# Altium footprint library PUMAlib.PcbLib: 45 footprints (part 3 of 3)
Each footprint in its own frame and in the unit in brackets; x right, y up, seen from the top. Pads: shape width x height; smd on the part's side, far side on the other; paste and mask are expansions set on the pad; w line width, h text height; cw(c..) or ccw(c..) is an arc to the next point about the centre after c.
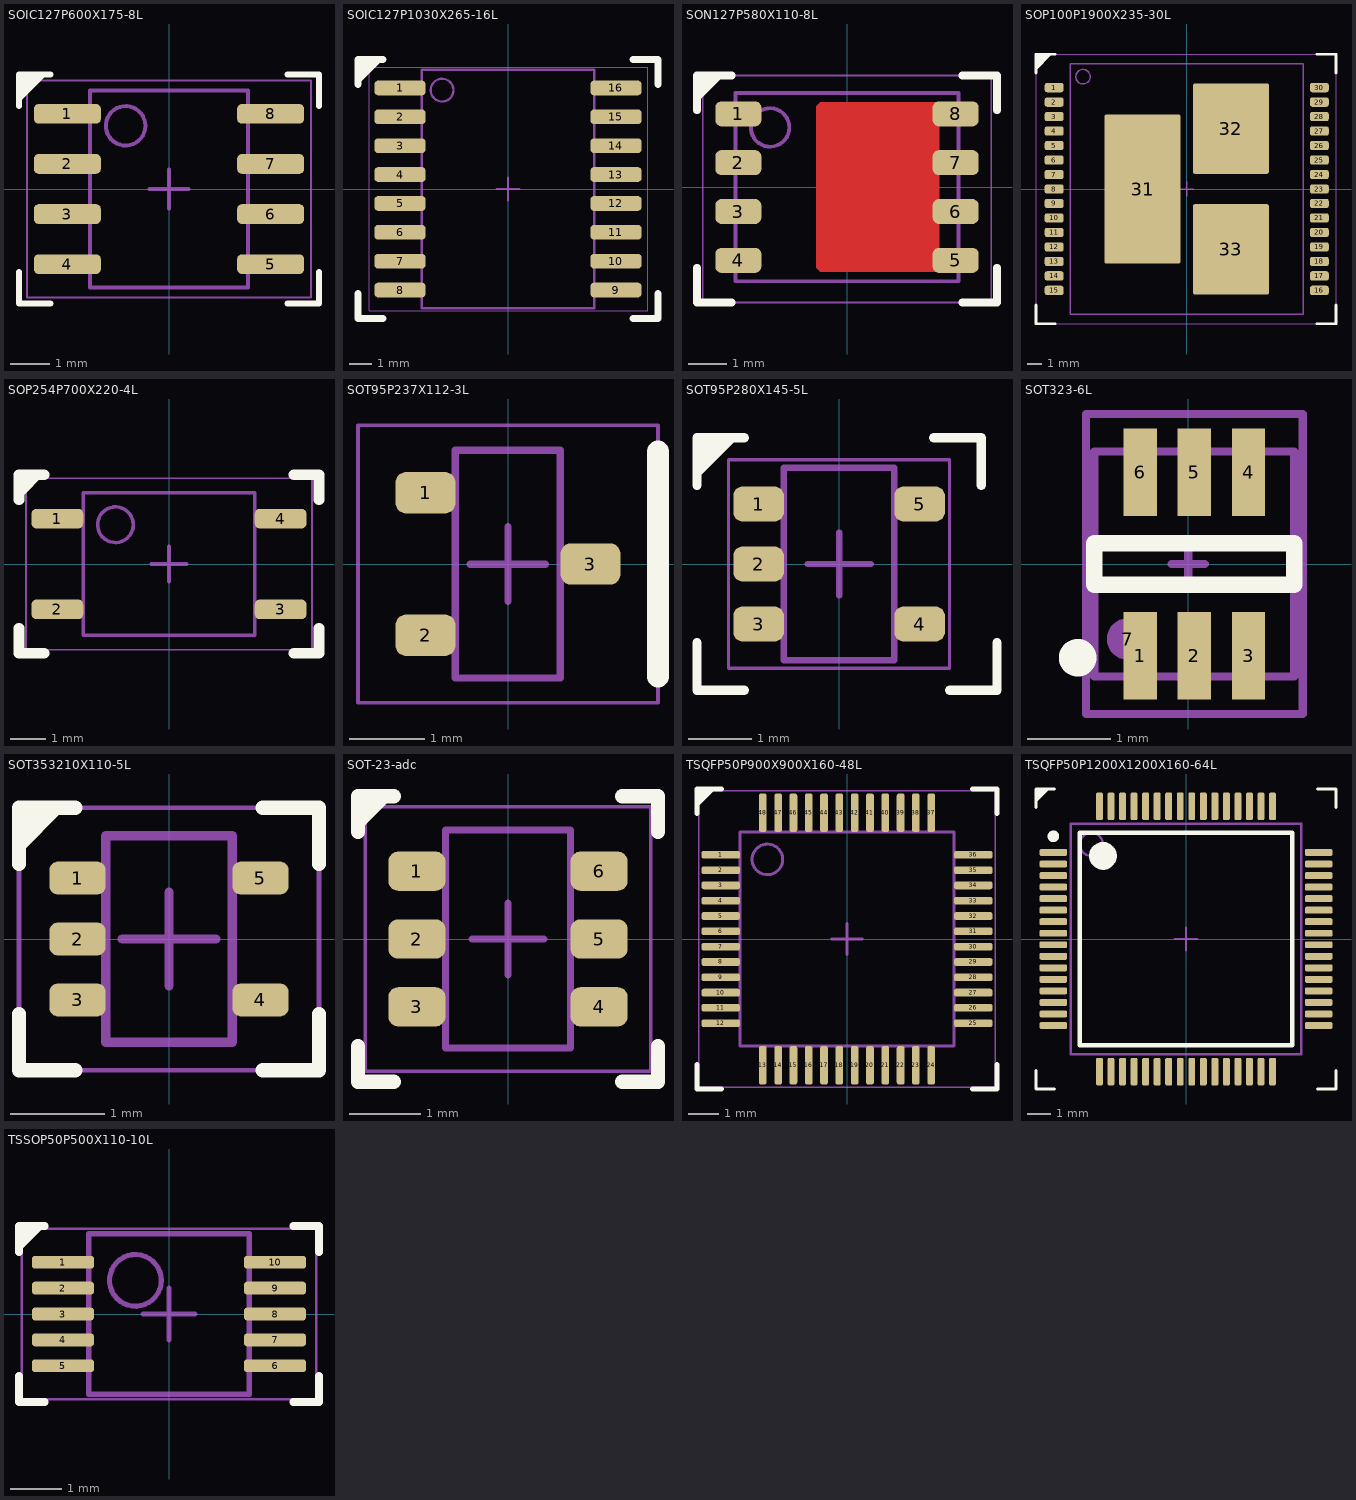
[diagram p2: the footprints below, top view; thin cyan lines are the x and y axes]

## SOIC127P600X175-8L [mm] "SOIC, 8-Leads, Body 4,90x3,90mm, Pitch 1,27mm, IPC High Density"
height 1.75
pads (8):
  rrect50% 1.7x0.5 smd: 1(-2.575,1.905) 2(-2.575,0.635) 3(-2.575,-0.635) 4(-2.575,-1.905) 5(2.575,-1.905) 6(2.575,-0.635) 7(2.575,0.635) 8(2.575,1.905)
Top Overlay:
  region: -3.8,2.2 -3.1,2.9 -3.8,2.9
  lines w0.15: -3.8,-2.1 -3.8,-2.9 -3,-2.9 ; -3.8,2.1 -3.8,2.9 -3,2.9 ; 3,-2.9 3.8,-2.9 3.8,-2.1 ; 3,2.9 3.8,2.9 3.8,2.1
Mechanical 13:
  circle w0.1: c-1.1,1.6 r0.5
  lines w0.1: -2,-2.5 2,-2.5 2,2.5 -2,2.5 -2,-2.5
Mechanical 15:
  lines w0.05: -3.6,-2.75 3.6,-2.75 3.6,2.75 -3.6,2.75 -3.6,-2.75
  lines w0.1: -0.5,0 0.5,0 ; 0,-0.5 0,0.5
3D body "SOIC127P600X175-8L.step": height 1.75, standoff 0, extent -3,-2.5 3,2.5

## SOIC127P1030X265-16L [mm] "SOIC, 16-Leads, Body 10,30x7,50mm, Pitch 1,27mm, IPC High Density"
height 2.65
pads (16):
  rrect50% 2.25x0.65 smd: 1(-4.75,4.445) 2(-4.75,3.175) 3(-4.75,1.905) 4(-4.75,0.635) 5(-4.75,-0.635) 6(-4.75,-1.905) 7(-4.75,-3.175) 8(-4.75,-4.445) 9(4.75,-4.445) 10(4.75,-3.175) 11(4.75,-1.905) 12(4.75,-0.635) 13(4.75,0.635) 14(4.75,1.905) 15(4.75,3.175) 16(4.75,4.445)
Top Overlay:
  region: -6.6,4.6 -5.5,5.7 -6.6,5.7
  lines w0.3: -6.6,-4.6 -6.6,-5.7 -5.5,-5.7 ; -6.6,4.6 -6.6,5.7 -5.5,5.7 ; 5.5,-5.7 6.6,-5.7 6.6,-4.6 ; 5.5,5.7 6.6,5.7 6.6,4.6
Top Assembly:
  circle w0.1: c-2.9,4.35 r0.5
  lines w0.1: -3.8,-5.25 3.8,-5.25 3.8,5.25 -3.8,5.25 -3.8,-5.25
Mechanical 15:
  lines w0.05: -6.1,-5.35 6.15,-5.35 6.15,5.35 -6.1,5.35 -6.1,-5.35
  lines w0.1: -0.5,0 0.5,0 ; 0,-0.5 0,0.5
3D body "SOIC127P1030X265-16L.step": height 2.65, standoff 0, extent -5.15,-5.25 5.15,5.25

## SON127P580X110-8L [mm] "SON, 8-Leads, Body 4,85x5,75mm, Pitch 1,27mm, IPC High Density"
height 1.1
pads (8):
  rrect50% 1.2x0.65 smd: 1(-2.825,1.905) 2(-2.825,0.635) 3(-2.825,-0.635) 4(-2.825,-1.905) 5(2.825,-1.905) 6(2.825,-0.635) 7(2.825,0.635) 8(2.825,1.905)
Top Layer:
  region: 2.4,2.2 -0.7,2.2 -0.8,2.1 -0.8,-2.1 -0.7,-2.2 2.4,-2.2
Top Overlay:
  region: -3.9,2.2 -3.2,2.9 -3.9,2.9
  lines w0.2: -3.9,-2.1 -3.9,-3 -3,-3 ; -3.9,2 -3.9,2.9 -3,2.9 ; 3,-3 3.9,-3 3.9,-2.1 ; 3,2.9 3.9,2.9 3.9,2
Top Assembly:
  circle w0.1: c-2,1.55 r0.5
  lines w0.1: -2.9,-2.45 2.9,-2.45 2.9,2.45 -2.9,2.45 -2.9,-2.45
Mechanical 15:
  lines w0.05: -3.75,-3 3.75,-3 3.75,2.9 -3.75,2.9 -3.75,-3
  lines w0.1: -0.5,0 0.5,0 ; 0,-0.5 0,0.5
3D body "SON127P580X110-8L.step": height 1.1, standoff 0, extent -2.901,-2.45 2.901,2.45

## SOP100P1900X235-30L [mm] "SOP, 30-Leads, Body 17,20x16,00mm, Pitch 1,00mm, IPC High Density"
height 2.35
pads (33):
  rrect50% 1.3x0.65 smd: 1(-9.15,7) 2(-9.15,6) 3(-9.15,5) 4(-9.15,4) 5(-9.15,3) 6(-9.15,2) 7(-9.15,1) 8(-9.15,0) 9(-9.15,-1) 10(-9.15,-2) 11(-9.15,-3) 12(-9.15,-4) 13(-9.15,-5) 14(-9.15,-6) 15(-9.15,-7) 16(9.15,-7) 17(9.15,-6) 18(9.15,-5) 19(9.15,-4) 20(9.15,-3) 21(9.15,-2) 22(9.15,-1) 23(9.15,0) 24(9.15,1) 25(9.15,2) 26(9.15,3) 27(9.15,4) 28(9.15,5) 29(9.15,6) 30(9.15,7)
  rrect5% 5.25x10.3 smd: 31(-3.05,0)
  rrect5% 5.25x6.23 smd: 32(3.05,4.165) 33(3.05,-4.165)
Top Overlay:
  region: -10.4,8.2 -9.3,9.3 -10.4,9.3
  lines w0.2: -10.4,-8 -10.4,-9.3 -9.1,-9.3 ; -10.4,8 -10.4,9.3 -9.1,9.3 ; 9,-9.3 10.3,-9.3 10.3,-8 ; 9,9.3 10.3,9.3 10.3,8
Mechanical 13:
  circle w0.1: c-7.15,7.75 r0.5
  lines w0.1: -8.05,-8.65 8.05,-8.65 8.05,8.65 -8.05,8.65 -8.05,-8.65
Mechanical 15:
  lines w0.05: -10.4,-9.3 10.3,-9.3 10.3,9.3 -10.4,9.3 -10.4,-9.3
  lines w0.1: -0.5,0 0.5,0 ; 0,-0.5 0,0.5
3D body "SOP100P1900X235-30L.step": height 2.35, standoff 0, extent -9.5,-8.65 9.5,8.65

## SOP254P700X220-4L [mm] "SOP, 4-Leads, Body 3,75x4,60mm, Pitch 2,54mm, IPC High Density"
height 2.2
pads (4):
  rrect50% 1.45x0.55 smd: 1(-3.125,1.27) 2(-3.125,-1.27) 3(3.125,-1.27) 4(3.125,1.27)
Top Overlay:
  region: -4.2,1.9 -4.1,1.9 -3.5,2.5 -4.2,2.5
  lines w0.3: -4.2,-1.8 -4.2,-2.5 -3.5,-2.5 ; -4.2,1.8 -4.2,2.5 -3.5,2.5 ; 3.5,-2.5 4.2,-2.5 4.2,-1.8 ; 3.5,2.5 4.2,2.5 4.2,1.8
Top Assembly:
  circle w0.1: c-1.5,1.1 r0.5
  lines w0.1: -2.4,-2 -2.4,2 2.4,2 2.4,-2 -2.4,-2
Mechanical 15:
  lines w0.05: -4,-2.4 -4,2.4 4,2.4 4,-2.4 -4,-2.4
  lines w0.1: -0.5,0 0.5,0 ; 0,-0.5 0,0.5
3D body "SOP254P700X220-4L.step": height 2.2, standoff 0, extent -3.5,-2 3.5,2

## SOT95P237X112-3L [mm] "SOT23, 3-Leads, Body 2,92x2,37mm, Pitch 0,95mm, IPC High Density"
height 1.12
pads (3):
  rrect50% 0.8x0.55 smd: 1(-1.1,0.95) 2(-1.1,-0.95) 3(1.1,0)
Top Overlay:
  lines w0.3: 2,-1.5 2,1.5
Top Assembly:
  lines w0.1: -0.7,-1.52 -0.7,1.52 0.7,1.52 0.7,-1.52 -0.7,-1.52
Mechanical 15:
  lines w0.05: -2,-1.85 -2,1.85 2,1.85 2,-1.85 -2,-1.85
  lines w0.1: -0.5,0 0.5,0 ; 0,-0.5 0,0.5
3D body "SOT95P237X112-3L.step": height 1.12, standoff 0, extent -1.32,-1.52 1.32,1.52

## SOT95P280X145-5L [mm] "SOT23, 5-Leads, Body 2,90x2,80mm, Pitch 0,95mm, IPC High Density"
height 1.45
pads (5):
  rrect50% 0.8x0.55 smd: 1(-1.275,0.95) 2(-1.275,0) 3(-1.275,-0.95) 4(1.275,-0.95) 5(1.275,0.95)
Top Overlay:
  region: -2.25,1.35 -1.6,2 -2.25,2
  lines w0.15: -2.25,-1.25 -2.25,-2 -1.5,-2 ; -2.25,1.25 -2.25,2 -1.5,2 ; 1.5,2 2.25,2 2.25,1.25 ; 1.75,-2 2.5,-2 2.5,-1.25
Top Assembly:
  lines w0.1: -0.875,-1.525 -0.875,1.525 0.875,1.525 0.875,-1.525 -0.875,-1.525
Mechanical 15:
  lines w0.05: -1.75,-1.65 -1.75,1.65 1.75,1.65 1.75,-1.65 -1.75,-1.65
  lines w0.1: -0.5,0 0.5,0 ; 0,-0.5 0,0.5
3D body "SOT95P280X145-5L.step": height 1.45, standoff 0, extent -1.5,-1.525 1.5,1.525

## SOT323-6L [mm]
pads (7):
  rect 0.4x1.05 smd mask+0.05: 1(-0.575,-1.1) 2(0.075,-1.1) 3(0.725,-1.1) 4(0.725,1.1) 5(0.075,1.1) 6(-0.575,1.1)
  round 0.5 on Mech2: 7(-0.725,-0.9)
Top Overlay:
  circle w0.25: c-1.325,-1.125 r0.1
  lines w0.2: -1.125,-0.25 1.275,-0.25 1.275,0.25 -1.125,0.25 -1.125,-0.25
Top Assembly:
  lines w0.1: -1.125,-1.35 1.275,-1.35 1.275,1.35 -1.125,1.35 -1.125,-1.35
Mechanical 15:
  lines w0.1: -0.2,0 0.2,0 ; 0,-0.2 0,0.2 ; -1.225,-1.8 1.375,-1.8 1.375,1.8 -1.225,1.8 -1.225,-1.8
3D body "28014.stp": height 0.91, standoff -0.04, extent -0.925,-1.05 1.075,1.05

## SOT353210X110-5L [mm] "SOT353, 5-Leads, Body 2,00x2,10mm, Pitch 0,65mm, IPC High Density"
height 1.1
pads (5):
  rrect50% 0.6x0.35 smd: 1(-0.975,0.65) 2(-0.975,0) 3(-0.975,-0.65) 4(0.975,-0.65) 5(0.975,0.65)
Top Overlay:
  region: -1.6,0.9 -1.6,1.4 -1.1,1.4
  region: -1.6,0.8
  lines w0.15: -1.6,-0.8 -1.6,-1.4 -1,-1.4 ; -1.6,0.8 -1.6,1.4 -1,1.4 ; 1,-1.4 1.6,-1.4 1.6,-0.8 ; 1,1.4 1.6,1.4 1.6,0.8
Top Assembly:
  lines w0.1: -0.675,-1.1 -0.675,1.1 0.675,1.1 0.675,-1.1 -0.675,-1.1
Mechanical 15:
  lines w0.05: -1.6,-1.4 -1.6,1.4 1.6,1.4 1.6,-1.4 -1.6,-1.4
  lines w0.1: -0.5,0 0.5,0 ; 0,-0.5 0,0.5
3D body "SOT353210X110-5L.step": height 1.1, standoff 0, extent -1.1,-1.1 1.1,1.1

## SOT-23-adc [mm] "SOT23, 6-Leads, Body 2,90x2,80mm, Pitch 0,95mm, IPC High Density"
height 1.45
pads (6):
  rrect50% 0.8x0.55 smd: 1(-1.275,0.95) 2(-1.275,0) 3(-1.275,-0.95) 4(1.275,-0.95) 5(1.275,0) 6(1.275,0.95)
Top Overlay:
  region: -2.1,1.5 -1.6,2 -2.1,2
  lines w0.2: -2.1,-1.5 -2.1,-2 -1.6,-2 ; -2.1,1.5 -2.1,2 -1.6,2 ; 1.6,-2 2.1,-2 2.1,-1.5 ; 1.6,2 2.1,2 2.1,1.5
Top Assembly:
  lines w0.1: -0.875,-1.525 -0.875,1.525 0.875,1.525 0.875,-1.525 -0.875,-1.525
Mechanical 15:
  lines w0.05: -2,-1.85 -2,1.85 2,1.85 2,-1.85 -2,-1.85
  lines w0.1: -0.5,0 0.5,0 ; 0,-0.5 0,0.5
3D body "SOT95P280X145-6L.step": height 1.45, standoff 0, extent -1.5,-1.525 1.5,1.525

## TSQFP50P900X900X160-48L [mm] "TSQFP, 48-Leads, Body 7,00x7,00mm, Pitch 0,50mm, IPC High Density"
height 1.6
pads (48):
  rrect50% 1.25x0.25 smd: 1(-4.125,2.75) 2(-4.125,2.25) 3(-4.125,1.75) 4(-4.125,1.25) 5(-4.125,0.75) 6(-4.125,0.25) 7(-4.125,-0.25) 8(-4.125,-0.75) 9(-4.125,-1.25) 10(-4.125,-1.75) 11(-4.125,-2.25) 12(-4.125,-2.75) 25(4.125,-2.75) 26(4.125,-2.25) 27(4.125,-1.75) 28(4.125,-1.25) 29(4.125,-0.75) 30(4.125,-0.25) 31(4.125,0.25) 32(4.125,0.75) 33(4.125,1.25) 34(4.125,1.75) 35(4.125,2.25) 36(4.125,2.75)
  rrect50% 0.25x1.25 smd: 13(-2.75,-4.125) 14(-2.25,-4.125) 15(-1.75,-4.125) 16(-1.25,-4.125) 17(-0.75,-4.125) 18(-0.25,-4.125) 19(0.25,-4.125) 20(0.75,-4.125) 21(1.25,-4.125) 22(1.75,-4.125) 23(2.25,-4.125) 24(2.75,-4.125) 37(2.75,4.125) 38(2.25,4.125) 39(1.75,4.125) 40(1.25,4.125) 41(0.75,4.125) 42(0.25,4.125) 43(-0.25,4.125) 44(-0.75,4.125) 45(-1.25,4.125) 46(-1.75,4.125) 47(-2.25,4.125) 48(-2.75,4.125)
Top Overlay:
  region: -4.9,4.3 -4.3,4.9 -4.9,4.9
  lines w0.15: -4.9,-4.1 -4.9,-4.9 -4.1,-4.9 ; -4.9,4.1 -4.9,4.9 -4.1,4.9 ; 4.1,-4.9 4.9,-4.9 4.9,-4.1 ; 4.1,4.9 4.9,4.9 4.9,4.1
Top Assembly:
  circle w0.1: c-2.6,2.6 r0.5
  lines w0.1: -3.5,-3.5 3.5,-3.5 3.5,3.5 -3.5,3.5 -3.5,-3.5
Mechanical 15:
  lines w0.05: -4.85,-4.85 4.85,-4.85 4.85,4.85 -4.85,4.85 -4.85,-4.85
  lines w0.1: -0.5,0 0.5,0 ; 0,-0.5 0,0.5
3D body "TSQFP50P900X900X160-48L.step": height 1.6, standoff 0, extent -4.5,-4.5 4.5,4.5

## TSQFP50P1200X1200X160-64L [mm] "TSQFP, 64-Leads, Body 10,00x10,00mm, Pitch 0,50mm, IPC High Density"
height 1.6
pads (64):
  rrect50% 1.2x0.3 smd: 1(-5.75,3.75) 2(-5.75,3.25) 3(-5.75,2.75) 4(-5.75,2.25) 5(-5.75,1.75) 6(-5.75,1.25) 7(-5.75,0.75) 8(-5.75,0.25) 9(-5.75,-0.25) 10(-5.75,-0.75) 11(-5.75,-1.25) 12(-5.75,-1.75) 13(-5.75,-2.25) 14(-5.75,-2.75) 15(-5.75,-3.25) 16(-5.75,-3.75) 33(5.75,-3.75) 34(5.75,-3.25) 35(5.75,-2.75) 36(5.75,-2.25) 37(5.75,-1.75) 38(5.75,-1.25) 39(5.75,-0.75) 40(5.75,-0.25) 41(5.75,0.25) 42(5.75,0.75) 43(5.75,1.25) 44(5.75,1.75) 45(5.75,2.25) 46(5.75,2.75) 47(5.75,3.25) 48(5.75,3.75)
  rrect50% 0.3x1.2 smd: 17(-3.75,-5.75) 18(-3.25,-5.75) 19(-2.75,-5.75) 20(-2.25,-5.75) 21(-1.75,-5.75) 22(-1.25,-5.75) 23(-0.75,-5.75) 24(-0.25,-5.75) 25(0.25,-5.75) 26(0.75,-5.75) 27(1.25,-5.75) 28(1.75,-5.75) 29(2.25,-5.75) 30(2.75,-5.75) 31(3.25,-5.75) 32(3.75,-5.75) 49(3.75,5.75) 50(3.25,5.75) 51(2.75,5.75) 52(2.25,5.75) 53(1.75,5.75) 54(1.25,5.75) 55(0.75,5.75) 56(0.25,5.75) 57(-0.25,5.75) 58(-0.75,5.75) 59(-1.25,5.75) 60(-1.75,5.75) 61(-2.25,5.75) 62(-2.75,5.75) 63(-3.25,5.75) 64(-3.75,5.75)
Top Overlay:
  circle w0.25: c-5.75,4.45 r0.125
  circle w0.6: c-3.6,3.6 r0.3
  region: -6.5,5.9 -5.9,6.5 -6.5,6.5
  lines w0.15: -6.5,-5.7 -6.5,-6.5 -5.7,-6.5 ; -6.5,5.7 -6.5,6.5 -5.7,6.5 ; 5.7,-6.5 6.5,-6.5 6.5,-5.7 ; 5.7,6.5 6.5,6.5 6.5,5.7
  lines w0.2: -4.6,-4.6 -4.6,4.6 4.6,4.6 4.6,-4.6 -4.6,-4.6
Mechanical 13:
  circle w0.1: c-4.1,4.1 r0.5
  lines w0.1: -5,-5 -5,5 5,5 5,-5 -5,-5
Mechanical 15:
  lines w0.05: -5,-5 -5,5 5,5 5,-5 -5,-5
  lines w0.1: -0.5,0 0.5,0 ; 0,-0.5 0,0.5
3D body "TSQFP50P1200X1200X160-64L.step": height 1.6, standoff 0, extent -6,-6 6,6

## TSSOP50P500X110-10L [mm] "TSSOP, 10-Leads, Body 3,00x3,00mm, Pitch 0,50mm, IPC High Density"
height 1.1
pads (10):
  rrect50% 1.2x0.25 smd: 1(-2.05,1) 2(-2.05,0.5) 3(-2.05,0) 4(-2.05,-0.5) 5(-2.05,-1) 6(2.05,-1) 7(2.05,-0.5) 8(2.05,0) 9(2.05,0.5) 10(2.05,1)
Top Overlay:
  region: -2.9,1.7 -2.9,1.3 -2.5,1.7
  lines w0.15: -2.9,-1.2 -2.9,-1.7 -2.4,-1.7 ; -2.9,1.2 -2.9,1.7 -2.4,1.7 ; -2.9,1.3 -2.5,1.7 ; 2.4,-1.7 2.9,-1.7 2.9,-1.2 ; 2.4,1.7 2.9,1.7 2.9,1.2
Mechanical 13:
  circle w0.1: c-0.65,0.65 r0.5
  lines w0.1: -1.55,-1.55 -1.55,1.55 1.55,1.55 1.55,-1.55 -1.55,-1.55
Mechanical 15:
  lines w0.05: -2.85,-1.65 -2.85,1.65 2.85,1.65 2.85,-1.65 -2.85,-1.65
  lines w0.1: -0.5,0 0.5,0 ; 0,-0.5 0,0.5
3D body "TSSOP50P500X110-10L.step": height 1.1, standoff 0, extent -2.5,-1.55 2.5,1.55